# Altium integrated library WE-TPC.IntLib: 262 symbols (part 1 of 3)
Pins are listed as number, name and electrical type; pins without a type are passive.

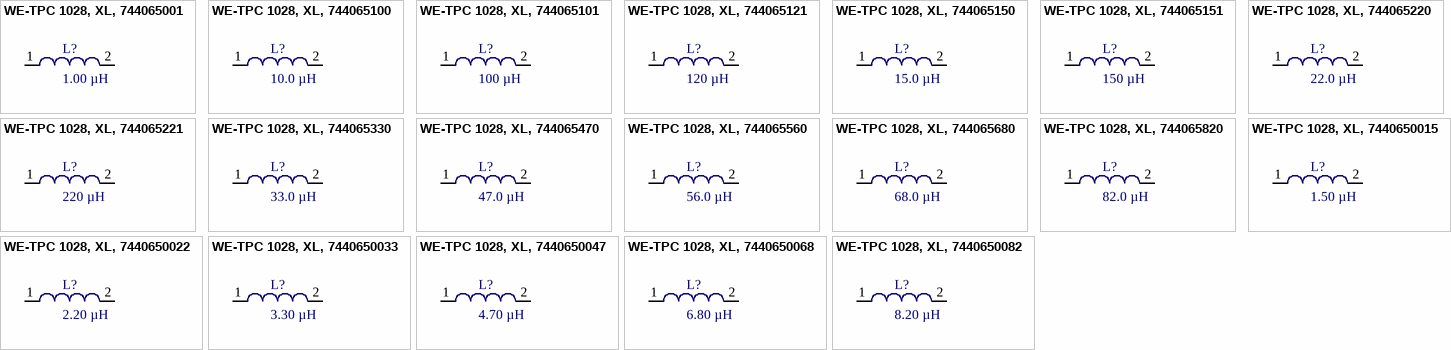
[diagram p0: symbols WE-TPC 1028, XL, 744065001 to WE-TPC 1028, XL, 7440650082]

## WE-TPC 1028, XL, 744065001
designator L?, comment 1.00 µH
SMD Shielded Tiny Power Inductor WE-TPC, L=1.00 µH; partNo: 744065001; Manufacturer: Würth Elektronik eiSos GmbH; Inductance: 1.00 µH; ComponentLink1Description: Manufacturer; ComponentLink1URL: http://www.we-online.de; Created by: Christin Zierenner; Created Date: July 2009; ComponentLink2Description: Datasheet; ComponentLink2URL: http://www.we-online.de/katalog/media/pdf/744065001.pdf
footprint WE-TPC 1028, XL (SMD Inductor, 2-Leads, Body 10,0x10,0mm)
pins: 1, 2

## WE-TPC 1028, XL, 744065100
designator L?, comment 10.0 µH
SMD Shielded Tiny Power Inductor WE-TPC, L=10.0 µH; partNo: 744065100; Manufacturer: Würth Elektronik eiSos GmbH; Inductance: 10.0 µH; ComponentLink1Description: Manufacturer; ComponentLink1URL: http://www.we-online.de; Created by: Christin Zierenner; Created Date: July 2009; ComponentLink2Description: Datasheet; ComponentLink2URL: http://www.we-online.de/katalog/media/pdf/744065100.pdf
footprint WE-TPC 1028, XL (SMD Inductor, 2-Leads, Body 10,0x10,0mm)
pins: 1, 2

## WE-TPC 1028, XL, 744065101
designator L?, comment 100 µH
SMD Shielded Tiny Power Inductor WE-TPC, L=100 µH; partNo: 744065101; Manufacturer: Würth Elektronik eiSos GmbH; Inductance: 100 µH; ComponentLink1Description: Manufacturer; ComponentLink1URL: http://www.we-online.de; Created by: Christin Zierenner; Created Date: July 2009; ComponentLink2Description: Datasheet; ComponentLink2URL: http://www.we-online.de/katalog/media/pdf/744065101.pdf
footprint WE-TPC 1028, XL (SMD Inductor, 2-Leads, Body 10,0x10,0mm)
pins: 1, 2

## WE-TPC 1028, XL, 744065121
designator L?, comment 120 µH
SMD Shielded Tiny Power Inductor WE-TPC, L=120 µH; partNo: 744065121; Manufacturer: Würth Elektronik eiSos GmbH; Inductance: 120 µH; ComponentLink1Description: Manufacturer; ComponentLink1URL: http://www.we-online.de; Created by: Christin Zierenner; Created Date: July 2009; ComponentLink2Description: Datasheet; ComponentLink2URL: http://www.we-online.de/katalog/media/pdf/744065121.pdf
footprint WE-TPC 1028, XL (SMD Inductor, 2-Leads, Body 10,0x10,0mm)
pins: 1, 2

## WE-TPC 1028, XL, 744065150
designator L?, comment 15.0 µH
SMD Shielded Tiny Power Inductor WE-TPC, L=15.0 µH; partNo: 744065150; Manufacturer: Würth Elektronik eiSos GmbH; Inductance: 15.0 µH; ComponentLink1Description: Manufacturer; ComponentLink1URL: http://www.we-online.de; Created by: Christin Zierenner; Created Date: July 2009; ComponentLink2Description: Datasheet; ComponentLink2URL: http://www.we-online.de/katalog/media/pdf/744065150.pdf
footprint WE-TPC 1028, XL (SMD Inductor, 2-Leads, Body 10,0x10,0mm)
pins: 1, 2

## WE-TPC 1028, XL, 744065151
designator L?, comment 150 µH
SMD Shielded Tiny Power Inductor WE-TPC, L=150 µH; partNo: 744065151; Manufacturer: Würth Elektronik eiSos GmbH; Inductance: 150 µH; ComponentLink1Description: Manufacturer; ComponentLink1URL: http://www.we-online.de; Created by: Christin Zierenner; Created Date: July 2009; ComponentLink2Description: Datasheet; ComponentLink2URL: http://www.we-online.de/katalog/media/pdf/744065151.pdf
footprint WE-TPC 1028, XL (SMD Inductor, 2-Leads, Body 10,0x10,0mm)
pins: 1, 2

## WE-TPC 1028, XL, 744065220
designator L?, comment 22.0 µH
SMD Shielded Tiny Power Inductor WE-TPC, L=22.0 µH; partNo: 744065220; Manufacturer: Würth Elektronik eiSos GmbH; Inductance: 22.0 µH; ComponentLink1Description: Manufacturer; ComponentLink1URL: http://www.we-online.de; Created by: Christin Zierenner; Created Date: July 2009; ComponentLink2Description: Datasheet; ComponentLink2URL: http://www.we-online.de/katalog/media/pdf/744065220.pdf
footprint WE-TPC 1028, XL (SMD Inductor, 2-Leads, Body 10,0x10,0mm)
pins: 1, 2

## WE-TPC 1028, XL, 744065221
designator L?, comment 220 µH
SMD Shielded Tiny Power Inductor WE-TPC, L=220 µH; partNo: 744065221; Manufacturer: Würth Elektronik eiSos GmbH; Inductance: 220 µH; ComponentLink1Description: Manufacturer; ComponentLink1URL: http://www.we-online.de; Created by: Christin Zierenner; Created Date: July 2009; ComponentLink2Description: Datasheet; ComponentLink2URL: http://www.we-online.de/katalog/media/pdf/744065221.pdf
footprint WE-TPC 1028, XL (SMD Inductor, 2-Leads, Body 10,0x10,0mm)
pins: 1, 2

## WE-TPC 1028, XL, 744065330
designator L?, comment 33.0 µH
SMD Shielded Tiny Power Inductor WE-TPC, L=33.0 µH; partNo: 744065330; Manufacturer: Würth Elektronik eiSos GmbH; Inductance: 33.0 µH; ComponentLink1Description: Manufacturer; ComponentLink1URL: http://www.we-online.de; Created by: Christin Zierenner; Created Date: July 2009; ComponentLink2Description: Datasheet; ComponentLink2URL: http://www.we-online.de/katalog/media/pdf/744065330.pdf
footprint WE-TPC 1028, XL (SMD Inductor, 2-Leads, Body 10,0x10,0mm)
pins: 1, 2

## WE-TPC 1028, XL, 744065470
designator L?, comment 47.0 µH
SMD Shielded Tiny Power Inductor WE-TPC, L=47.0 µH; partNo: 744065470; Manufacturer: Würth Elektronik eiSos GmbH; Inductance: 47.0 µH; ComponentLink1Description: Manufacturer; ComponentLink1URL: http://www.we-online.de; Created by: Christin Zierenner; Created Date: July 2009; ComponentLink2Description: Datasheet; ComponentLink2URL: http://www.we-online.de/katalog/media/pdf/744065470.pdf
footprint WE-TPC 1028, XL (SMD Inductor, 2-Leads, Body 10,0x10,0mm)
pins: 1, 2

## WE-TPC 1028, XL, 744065560
designator L?, comment 56.0 µH
SMD Shielded Tiny Power Inductor WE-TPC, L=56.0 µH; partNo: 744065560; Manufacturer: Würth Elektronik eiSos GmbH; Inductance: 56.0 µH; ComponentLink1Description: Manufacturer; ComponentLink1URL: http://www.we-online.de; Created by: Christin Zierenner; Created Date: July 2009; ComponentLink2Description: Datasheet; ComponentLink2URL: http://www.we-online.de/katalog/media/pdf/744065560.pdf
footprint WE-TPC 1028, XL (SMD Inductor, 2-Leads, Body 10,0x10,0mm)
pins: 1, 2

## WE-TPC 1028, XL, 744065680
designator L?, comment 68.0 µH
SMD Shielded Tiny Power Inductor WE-TPC, L=68.0 µH; partNo: 744065680; Manufacturer: Würth Elektronik eiSos GmbH; Inductance: 68.0 µH; ComponentLink1Description: Manufacturer; ComponentLink1URL: http://www.we-online.de; Created by: Christin Zierenner; Created Date: July 2009; ComponentLink2Description: Datasheet; ComponentLink2URL: http://www.we-online.de/katalog/media/pdf/744065680.pdf
footprint WE-TPC 1028, XL (SMD Inductor, 2-Leads, Body 10,0x10,0mm)
pins: 1, 2

## WE-TPC 1028, XL, 744065820
designator L?, comment 82.0 µH
SMD Shielded Tiny Power Inductor WE-TPC, L=82.0 µH; partNo: 744065820; Manufacturer: Würth Elektronik eiSos GmbH; Inductance: 82.0 µH; ComponentLink1Description: Manufacturer; ComponentLink1URL: http://www.we-online.de; Created by: Christin Zierenner; Created Date: July 2009; ComponentLink2Description: Datasheet; ComponentLink2URL: http://www.we-online.de/katalog/media/pdf/744065820.pdf
footprint WE-TPC 1028, XL (SMD Inductor, 2-Leads, Body 10,0x10,0mm)
pins: 1, 2

## WE-TPC 1028, XL, 7440650015
designator L?, comment 1.50 µH
SMD Shielded Tiny Power Inductor WE-TPC, L=1.50 µH; partNo: 7440650015; Manufacturer: Würth Elektronik eiSos GmbH; Inductance: 1.50 µH; ComponentLink1Description: Manufacturer; ComponentLink1URL: http://www.we-online.de; Created by: Christin Zierenner; Created Date: July 2009; ComponentLink2Description: Datasheet; ComponentLink2URL: http://www.we-online.de/katalog/media/pdf/7440650015.pdf
footprint WE-TPC 1028, XL (SMD Inductor, 2-Leads, Body 10,0x10,0mm)
pins: 1, 2

## WE-TPC 1028, XL, 7440650022
designator L?, comment 2.20 µH
SMD Shielded Tiny Power Inductor WE-TPC, L=2.20 µH; partNo: 7440650022; Manufacturer: Würth Elektronik eiSos GmbH; Inductance: 2.20 µH; ComponentLink1Description: Manufacturer; ComponentLink1URL: http://www.we-online.de; Created by: Christin Zierenner; Created Date: July 2009; ComponentLink2Description: Datasheet; ComponentLink2URL: http://www.we-online.de/katalog/media/pdf/7440650022.pdf
footprint WE-TPC 1028, XL (SMD Inductor, 2-Leads, Body 10,0x10,0mm)
pins: 1, 2

## WE-TPC 1028, XL, 7440650033
designator L?, comment 3.30 µH
SMD Shielded Tiny Power Inductor WE-TPC, L=3.30 µH; partNo: 7440650033; Manufacturer: Würth Elektronik eiSos GmbH; Inductance: 3.30 µH; ComponentLink1Description: Manufacturer; ComponentLink1URL: http://www.we-online.de; Created by: Christin Zierenner; Created Date: July 2009; ComponentLink2Description: Datasheet; ComponentLink2URL: http://www.we-online.de/katalog/media/pdf/7440650033.pdf
footprint WE-TPC 1028, XL (SMD Inductor, 2-Leads, Body 10,0x10,0mm)
pins: 1, 2

## WE-TPC 1028, XL, 7440650047
designator L?, comment 4.70 µH
SMD Shielded Tiny Power Inductor WE-TPC, L=4.70 µH; partNo: 7440650047; Manufacturer: Würth Elektronik eiSos GmbH; Inductance: 4.70 µH; ComponentLink1Description: Manufacturer; ComponentLink1URL: http://www.we-online.de; Created by: Christin Zierenner; Created Date: July 2009; ComponentLink2Description: Datasheet; ComponentLink2URL: http://www.we-online.de/katalog/media/pdf/7440650047.pdf
footprint WE-TPC 1028, XL (SMD Inductor, 2-Leads, Body 10,0x10,0mm)
pins: 1, 2

## WE-TPC 1028, XL, 7440650068
designator L?, comment 6.80 µH
SMD Shielded Tiny Power Inductor WE-TPC, L=6.80 µH; partNo: 7440650068; Manufacturer: Würth Elektronik eiSos GmbH; Inductance: 6.80 µH; ComponentLink1Description: Manufacturer; ComponentLink1URL: http://www.we-online.de; Created by: Christin Zierenner; Created Date: July 2009; ComponentLink2Description: Datasheet; ComponentLink2URL: http://www.we-online.de/katalog/media/pdf/7440650068.pdf
footprint WE-TPC 1028, XL (SMD Inductor, 2-Leads, Body 10,0x10,0mm)
pins: 1, 2

## WE-TPC 1028, XL, 7440650082
designator L?, comment 8.20 µH
SMD Shielded Tiny Power Inductor WE-TPC, L=8.20 µH; partNo: 7440650082; Manufacturer: Würth Elektronik eiSos GmbH; Inductance: 8.20 µH; ComponentLink1Description: Manufacturer; ComponentLink1URL: http://www.we-online.de; Created by: Christin Zierenner; Created Date: July 2009; ComponentLink2Description: Datasheet; ComponentLink2URL: http://www.we-online.de/katalog/media/pdf/7440650082.pdf
footprint WE-TPC 1028, XL (SMD Inductor, 2-Leads, Body 10,0x10,0mm)
pins: 1, 2


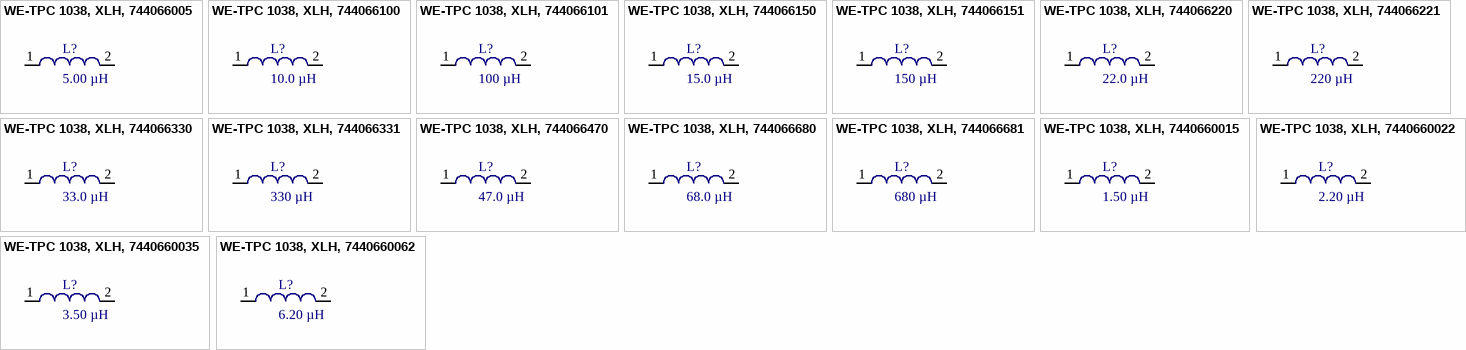
[diagram p1: symbols WE-TPC 1038, XLH, 744066005 to WE-TPC 1038, XLH, 7440660062]

## WE-TPC 1038, XLH, 744066005
designator L?, comment 5.00 µH
SMD Shielded Tiny Power Inductor WE-TPC, L=5.00 µH; partNo: 744066005; Manufacturer: Würth Elektronik eiSos GmbH; Inductance: 5.00 µH; ComponentLink1Description: Manufacturer; ComponentLink1URL: http://www.we-online.de; Created by: Christin Zierenner; Created Date: July 2009; ComponentLink2Description: Datasheet; ComponentLink2URL: http://www.we-online.de/katalog/media/pdf/744066005.pdf
footprint WE-TPC 1038, XLH (SMD Inductor, 2-Leads, Body 10,0x10,0mm)
pins: 1, 2

## WE-TPC 1038, XLH, 744066100
designator L?, comment 10.0 µH
SMD Shielded Tiny Power Inductor WE-TPC, L=10.0 µH; partNo: 744066100; Manufacturer: Würth Elektronik eiSos GmbH; Inductance: 10.0 µH; ComponentLink1Description: Manufacturer; ComponentLink1URL: http://www.we-online.de; Created by: Christin Zierenner; Created Date: July 2009; ComponentLink2Description: Datasheet; ComponentLink2URL: http://www.we-online.de/katalog/media/pdf/744066100.pdf
footprint WE-TPC 1038, XLH (SMD Inductor, 2-Leads, Body 10,0x10,0mm)
pins: 1, 2

## WE-TPC 1038, XLH, 744066101
designator L?, comment 100 µH
SMD Shielded Tiny Power Inductor WE-TPC, L=100 µH; partNo: 744066101; Manufacturer: Würth Elektronik eiSos GmbH; Inductance: 100 µH; ComponentLink1Description: Manufacturer; ComponentLink1URL: http://www.we-online.de; Created by: Christin Zierenner; Created Date: July 2009; ComponentLink2Description: Datasheet; ComponentLink2URL: http://www.we-online.de/katalog/media/pdf/744066101.pdf
footprint WE-TPC 1038, XLH (SMD Inductor, 2-Leads, Body 10,0x10,0mm)
pins: 1, 2

## WE-TPC 1038, XLH, 744066150
designator L?, comment 15.0 µH
SMD Shielded Tiny Power Inductor WE-TPC, L=15.0 µH; partNo: 744066150; Manufacturer: Würth Elektronik eiSos GmbH; Inductance: 15.0 µH; ComponentLink1Description: Manufacturer; ComponentLink1URL: http://www.we-online.de; Created by: Christin Zierenner; Created Date: July 2009; ComponentLink2Description: Datasheet; ComponentLink2URL: http://www.we-online.de/katalog/media/pdf/744066150.pdf
footprint WE-TPC 1038, XLH (SMD Inductor, 2-Leads, Body 10,0x10,0mm)
pins: 1, 2

## WE-TPC 1038, XLH, 744066151
designator L?, comment 150 µH
SMD Shielded Tiny Power Inductor WE-TPC, L=150 µH; partNo: 744066151; Manufacturer: Würth Elektronik eiSos GmbH; Inductance: 150 µH; ComponentLink1Description: Manufacturer; ComponentLink1URL: http://www.we-online.de; Created by: Christin Zierenner; Created Date: July 2009; ComponentLink2Description: Datasheet; ComponentLink2URL: http://www.we-online.de/katalog/media/pdf/744066151.pdf
footprint WE-TPC 1038, XLH (SMD Inductor, 2-Leads, Body 10,0x10,0mm)
pins: 1, 2

## WE-TPC 1038, XLH, 744066220
designator L?, comment 22.0 µH
SMD Shielded Tiny Power Inductor WE-TPC, L=22.0 µH; partNo: 744066220; Manufacturer: Würth Elektronik eiSos GmbH; Inductance: 22.0 µH; ComponentLink1Description: Manufacturer; ComponentLink1URL: http://www.we-online.de; Created by: Christin Zierenner; Created Date: July 2009; ComponentLink2Description: Datasheet; ComponentLink2URL: http://www.we-online.de/katalog/media/pdf/744066220.pdf
footprint WE-TPC 1038, XLH (SMD Inductor, 2-Leads, Body 10,0x10,0mm)
pins: 1, 2

## WE-TPC 1038, XLH, 744066221
designator L?, comment 220 µH
SMD Shielded Tiny Power Inductor WE-TPC, L=220 µH; partNo: 744066221; Manufacturer: Würth Elektronik eiSos GmbH; Inductance: 220 µH; ComponentLink1Description: Manufacturer; ComponentLink1URL: http://www.we-online.de; Created by: Christin Zierenner; Created Date: July 2009; ComponentLink2Description: Datasheet; ComponentLink2URL: http://www.we-online.de/katalog/media/pdf/744066221.pdf
footprint WE-TPC 1038, XLH (SMD Inductor, 2-Leads, Body 10,0x10,0mm)
pins: 1, 2

## WE-TPC 1038, XLH, 744066330
designator L?, comment 33.0 µH
SMD Shielded Tiny Power Inductor WE-TPC, L=33.0 µH; partNo: 744066330; Manufacturer: Würth Elektronik eiSos GmbH; Inductance: 33.0 µH; ComponentLink1Description: Manufacturer; ComponentLink1URL: http://www.we-online.de; Created by: Christin Zierenner; Created Date: July 2009; ComponentLink2Description: Datasheet; ComponentLink2URL: http://www.we-online.de/katalog/media/pdf/744066330.pdf
footprint WE-TPC 1038, XLH (SMD Inductor, 2-Leads, Body 10,0x10,0mm)
pins: 1, 2

## WE-TPC 1038, XLH, 744066331
designator L?, comment 330 µH
SMD Shielded Tiny Power Inductor WE-TPC, L=330 µH; partNo: 744066331; Manufacturer: Würth Elektronik eiSos GmbH; Inductance: 330 µH; ComponentLink1Description: Manufacturer; ComponentLink1URL: http://www.we-online.de; Created by: Christin Zierenner; Created Date: July 2009; ComponentLink2Description: Datasheet; ComponentLink2URL: http://www.we-online.de/katalog/media/pdf/744066331.pdf
footprint WE-TPC 1038, XLH (SMD Inductor, 2-Leads, Body 10,0x10,0mm)
pins: 1, 2

## WE-TPC 1038, XLH, 744066470
designator L?, comment 47.0 µH
SMD Shielded Tiny Power Inductor WE-TPC, L=47.0 µH; partNo: 744066470; Manufacturer: Würth Elektronik eiSos GmbH; Inductance: 47.0 µH; ComponentLink1Description: Manufacturer; ComponentLink1URL: http://www.we-online.de; Created by: Christin Zierenner; Created Date: July 2009; ComponentLink2Description: Datasheet; ComponentLink2URL: http://www.we-online.de/katalog/media/pdf/744066470.pdf
footprint WE-TPC 1038, XLH (SMD Inductor, 2-Leads, Body 10,0x10,0mm)
pins: 1, 2

## WE-TPC 1038, XLH, 744066680
designator L?, comment 68.0 µH
SMD Shielded Tiny Power Inductor WE-TPC, L=68.0 µH; partNo: 744066680; Manufacturer: Würth Elektronik eiSos GmbH; Inductance: 68.0 µH; ComponentLink1Description: Manufacturer; ComponentLink1URL: http://www.we-online.de; Created by: Christin Zierenner; Created Date: July 2009; ComponentLink2Description: Datasheet; ComponentLink2URL: http://www.we-online.de/katalog/media/pdf/744066680.pdf
footprint WE-TPC 1038, XLH (SMD Inductor, 2-Leads, Body 10,0x10,0mm)
pins: 1, 2

## WE-TPC 1038, XLH, 744066681
designator L?, comment 680 µH
SMD Shielded Tiny Power Inductor WE-TPC, L=680 µH; partNo: 744066681; Manufacturer: Würth Elektronik eiSos GmbH; Inductance: 680 µH; ComponentLink1Description: Manufacturer; ComponentLink1URL: http://www.we-online.de; Created by: Christin Zierenner; Created Date: July 2009; ComponentLink2Description: Datasheet; ComponentLink2URL: http://www.we-online.de/katalog/media/pdf/744066681.pdf
footprint WE-TPC 1038, XLH (SMD Inductor, 2-Leads, Body 10,0x10,0mm)
pins: 1, 2

## WE-TPC 1038, XLH, 7440660015
designator L?, comment 1.50 µH
SMD Shielded Tiny Power Inductor WE-TPC, L=1.50 µH; partNo: 7440660015; Manufacturer: Würth Elektronik eiSos GmbH; Inductance: 1.50 µH; ComponentLink1Description: Manufacturer; ComponentLink1URL: http://www.we-online.de; Created by: Christin Zierenner; Created Date: July 2009; ComponentLink2Description: Datasheet; ComponentLink2URL: http://www.we-online.de/katalog/media/pdf/7440660015.pdf
footprint WE-TPC 1038, XLH (SMD Inductor, 2-Leads, Body 10,0x10,0mm)
pins: 1, 2

## WE-TPC 1038, XLH, 7440660022
designator L?, comment 2.20 µH
SMD Shielded Tiny Power Inductor WE-TPC, L=2.20 µH; partNo: 7440660022; Manufacturer: Würth Elektronik eiSos GmbH; Inductance: 2.20 µH; ComponentLink1Description: Manufacturer; ComponentLink1URL: http://www.we-online.de; Created by: Christin Zierenner; Created Date: July 2009; ComponentLink2Description: Datasheet; ComponentLink2URL: http://www.we-online.de/katalog/media/pdf/7440660022.pdf
footprint WE-TPC 1038, XLH (SMD Inductor, 2-Leads, Body 10,0x10,0mm)
pins: 1, 2

## WE-TPC 1038, XLH, 7440660035
designator L?, comment 3.50 µH
SMD Shielded Tiny Power Inductor WE-TPC, L=3.50 µH; partNo: 7440660035; Manufacturer: Würth Elektronik eiSos GmbH; Inductance: 3.50 µH; ComponentLink1Description: Manufacturer; ComponentLink1URL: http://www.we-online.de; Created by: Christin Zierenner; Created Date: July 2009; ComponentLink2Description: Datasheet; ComponentLink2URL: http://www.we-online.de/katalog/media/pdf/7440660035.pdf
footprint WE-TPC 1038, XLH (SMD Inductor, 2-Leads, Body 10,0x10,0mm)
pins: 1, 2

## WE-TPC 1038, XLH, 7440660062
designator L?, comment 6.20 µH
SMD Shielded Tiny Power Inductor WE-TPC, L=6.20 µH; partNo: 7440660062; Manufacturer: Würth Elektronik eiSos GmbH; Inductance: 6.20 µH; ComponentLink1Description: Manufacturer; ComponentLink1URL: http://www.we-online.de; Created by: Christin Zierenner; Created Date: July 2009; ComponentLink2Description: Datasheet; ComponentLink2URL: http://www.we-online.de/katalog/media/pdf/7440660062.pdf
footprint WE-TPC 1038, XLH (SMD Inductor, 2-Leads, Body 10,0x10,0mm)
pins: 1, 2


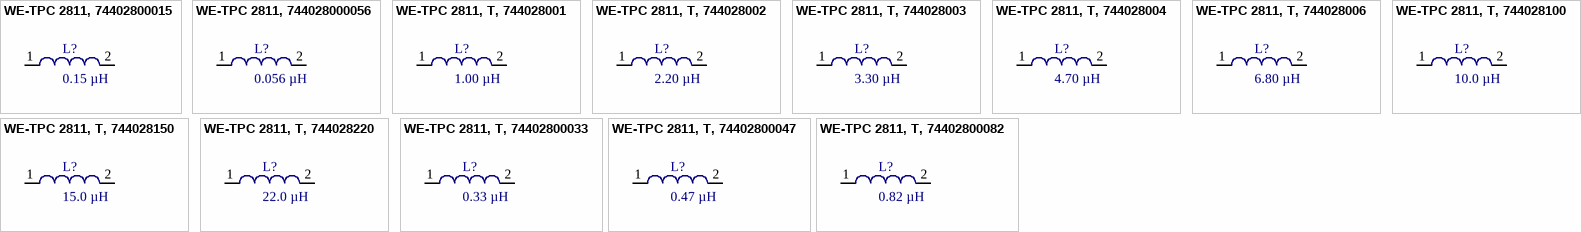
[diagram p2: symbols WE-TPC 2811, 74402800015 to WE-TPC 2811, T, 74402800082]

## WE-TPC 2811, 74402800015
designator L?, comment 0.15 µH
SMD Shielded Tiny Power Inductor WE-TPC, L=0.15 µH; partNo: 74402800015; Manufacturer: Würth Elektronik eiSos GmbH; Inductance: 0.15 µH; ComponentLink1Description: Manufacturer; ComponentLink1URL: http://www.we-online.de; Created by: Christin Otto; Created Date: January 2013; ComponentLink2Description: Datasheet; ComponentLink2URL: http://www.we-online.de/katalog/media/pdf/74402800015.pdf
footprint WE-TPC 2811, T (SMD Inductor, 2-Leads, Body 2,8x2,8mm)
pins: 1, 2

## WE-TPC 2811, 744028000056
designator L?, comment 0.056 µH
SMD Shielded Tiny Power Inductor WE-TPC, L=0.056 µH; partNo: 744028000056; Manufacturer: Würth Elektronik eiSos GmbH; Inductance: 0.056 µH; ComponentLink1Description: Manufacturer; ComponentLink1URL: http://www.we-online.de; Created by: Christin Otto; Created Date: January 2013; ComponentLink2Description: Datasheet; ComponentLink2URL: http://www.we-online.de/katalog/media/pdf/744028000056.pdf
footprint WE-TPC 2811, T (SMD Inductor, 2-Leads, Body 2,8x2,8mm)
pins: 1, 2

## WE-TPC 2811, T, 744028001
designator L?, comment 1.00 µH
SMD Shielded Tiny Power Inductor WE-TPC, L=1.00 µH; partNo: 744028001; Manufacturer: Würth Elektronik eiSos GmbH; Inductance: 1.00 µH; ComponentLink1Description: Manufacturer; ComponentLink1URL: http://www.we-online.de; Created by: Christin Zierenner; Created Date: July 2009; ComponentLink2Description: Datasheet; ComponentLink2URL: http://www.we-online.de/katalog/media/pdf/744028001.pdf
footprint WE-TPC 2811, T (SMD Inductor, 2-Leads, Body 2,8x2,8mm)
pins: 1, 2

## WE-TPC 2811, T, 744028002
designator L?, comment 2.20 µH
SMD Shielded Tiny Power Inductor WE-TPC, L=2.20 µH; partNo: 744028002; Manufacturer: Würth Elektronik eiSos GmbH; Inductance: 2.20 µH; ComponentLink1Description: Manufacturer; ComponentLink1URL: http://www.we-online.de; Created by: Christin Zierenner; Created Date: July 2009; ComponentLink2Description: Datasheet; ComponentLink2URL: http://www.we-online.de/katalog/media/pdf/744028002.pdf
footprint WE-TPC 2811, T (SMD Inductor, 2-Leads, Body 2,8x2,8mm)
pins: 1, 2

## WE-TPC 2811, T, 744028003
designator L?, comment 3.30 µH
SMD Shielded Tiny Power Inductor WE-TPC, L=3.30 µH; partNo: 744028003; Manufacturer: Würth Elektronik eiSos GmbH; Inductance: 3.30 µH; ComponentLink1Description: Manufacturer; ComponentLink1URL: http://www.we-online.de; Created by: Christin Zierenner; Created Date: July 2009; ComponentLink2Description: Datasheet; ComponentLink2URL: http://www.we-online.de/katalog/media/pdf/744028003.pdf
footprint WE-TPC 2811, T (SMD Inductor, 2-Leads, Body 2,8x2,8mm)
pins: 1, 2

## WE-TPC 2811, T, 744028004
designator L?, comment 4.70 µH
SMD Shielded Tiny Power Inductor WE-TPC, L=4.70 µH; partNo: 744028004; Manufacturer: Würth Elektronik eiSos GmbH; Inductance: 4.70 µH; ComponentLink1Description: Manufacturer; ComponentLink1URL: http://www.we-online.de; Created by: Christin Zierenner; Created Date: July 2009; ComponentLink2Description: Datasheet; ComponentLink2URL: http://www.we-online.de/katalog/media/pdf/744028004.pdf
footprint WE-TPC 2811, T (SMD Inductor, 2-Leads, Body 2,8x2,8mm)
pins: 1, 2

## WE-TPC 2811, T, 744028006
designator L?, comment 6.80 µH
SMD Shielded Tiny Power Inductor WE-TPC, L=6.80 µH; partNo: 744028006; Manufacturer: Würth Elektronik eiSos GmbH; Inductance: 6.80 µH; ComponentLink1Description: Manufacturer; ComponentLink1URL: http://www.we-online.de; Created by: Christin Zierenner; Created Date: July 2009; ComponentLink2Description: Datasheet; ComponentLink2URL: http://www.we-online.de/katalog/media/pdf/744028006.pdf
footprint WE-TPC 2811, T (SMD Inductor, 2-Leads, Body 2,8x2,8mm)
pins: 1, 2

## WE-TPC 2811, T, 744028100
designator L?, comment 10.0 µH
SMD Shielded Tiny Power Inductor WE-TPC, L=10.0 µH; partNo: 744028100; Manufacturer: Würth Elektronik eiSos GmbH; Inductance: 10.0 µH; ComponentLink1Description: Manufacturer; ComponentLink1URL: http://www.we-online.de; Created by: Christin Zierenner; Created Date: July 2009; ComponentLink2Description: Datasheet; ComponentLink2URL: http://www.we-online.de/katalog/media/pdf/744028100.pdf
footprint WE-TPC 2811, T (SMD Inductor, 2-Leads, Body 2,8x2,8mm)
pins: 1, 2

## WE-TPC 2811, T, 744028150
designator L?, comment 15.0 µH
SMD Shielded Tiny Power Inductor WE-TPC, L=15.0 µH; partNo: 744028150; Manufacturer: Würth Elektronik eiSos GmbH; Inductance: 15.0 µH; ComponentLink1Description: Manufacturer; ComponentLink1URL: http://www.we-online.de; Created by: Christin Zierenner; Created Date: July 2009; ComponentLink2Description: Datasheet; ComponentLink2URL: http://www.we-online.de/katalog/media/pdf/744028150.pdf
footprint WE-TPC 2811, T (SMD Inductor, 2-Leads, Body 2,8x2,8mm)
pins: 1, 2

## WE-TPC 2811, T, 744028220
designator L?, comment 22.0 µH
SMD Shielded Tiny Power Inductor WE-TPC, L=22.0 µH; partNo: 744028220; Manufacturer: Würth Elektronik eiSos GmbH; Inductance: 22.0 µH; ComponentLink1Description: Manufacturer; ComponentLink1URL: http://www.we-online.de; Created by: Christin Zierenner; Created Date: July 2009; ComponentLink2Description: Datasheet; ComponentLink2URL: http://www.we-online.de/katalog/media/pdf/744028220.pdf
footprint WE-TPC 2811, T (SMD Inductor, 2-Leads, Body 2,8x2,8mm)
pins: 1, 2

## WE-TPC 2811, T, 74402800033
designator L?, comment 0.33 µH
SMD Shielded Tiny Power Inductor WE-TPC, L=0.33 µH; partNo: 74402800033; Manufacturer: Würth Elektronik eiSos GmbH; Inductance: 0.33 µH; ComponentLink1Description: Manufacturer; ComponentLink1URL: http://www.we-online.de; Created by: Christin Zierenner; Created Date: July 2009; ComponentLink2Description: Datasheet; ComponentLink2URL: http://www.we-online.de/katalog/media/pdf/74402800033.pdf
footprint WE-TPC 2811, T (SMD Inductor, 2-Leads, Body 2,8x2,8mm)
pins: 1, 2

## WE-TPC 2811, T, 74402800047
designator L?, comment 0.47 µH
SMD Shielded Tiny Power Inductor WE-TPC, L=0.47 µH; partNo: 74402800047; Manufacturer: Würth Elektronik eiSos GmbH; Inductance: 0.47 µH; ComponentLink1Description: Manufacturer; ComponentLink1URL: http://www.we-online.de; Created by: Christin Zierenner; Created Date: July 2009; ComponentLink2Description: Datasheet; ComponentLink2URL: http://www.we-online.de/katalog/media/pdf/74402800047.pdf
footprint WE-TPC 2811, T (SMD Inductor, 2-Leads, Body 2,8x2,8mm)
pins: 1, 2

## WE-TPC 2811, T, 74402800082
designator L?, comment 0.82 µH
SMD Shielded Tiny Power Inductor WE-TPC, L=0.82 µH; partNo: 74402800082; Manufacturer: Würth Elektronik eiSos GmbH; Inductance: 0.82 µH; ComponentLink1Description: Manufacturer; ComponentLink1URL: http://www.we-online.de; Created by: Christin Zierenner; Created Date: July 2009; ComponentLink2Description: Datasheet; ComponentLink2URL: http://www.we-online.de/katalog/media/pdf/74402800082.pdf
footprint WE-TPC 2811, T (SMD Inductor, 2-Leads, Body 2,8x2,8mm)
pins: 1, 2


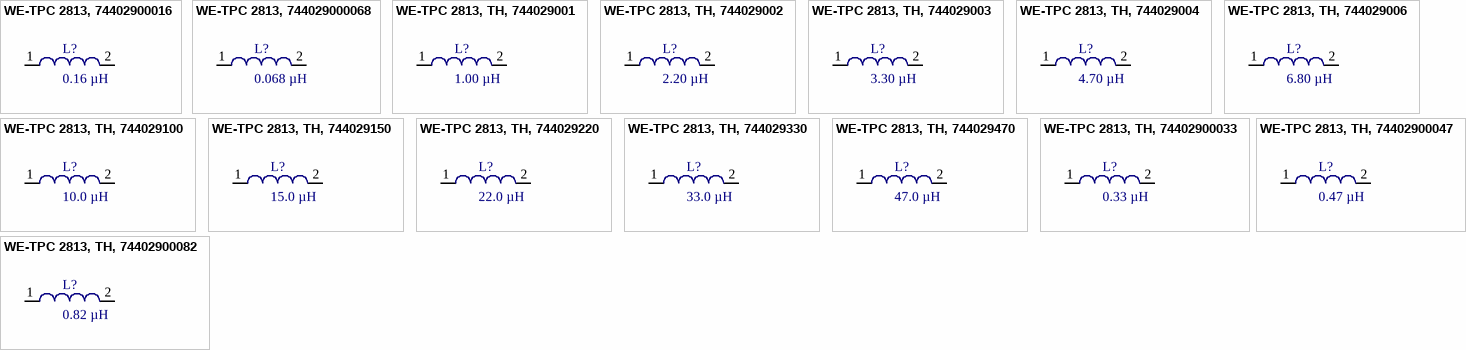
[diagram p3: symbols WE-TPC 2813, 74402900016 to WE-TPC 2813, TH, 74402900082]

## WE-TPC 2813, 74402900016
designator L?, comment 0.16 µH
SMD Shielded Tiny Power Inductor WE-TPC, L=0.16 µH; partNo: 74402900016; Manufacturer: Würth Elektronik eiSos GmbH; Inductance: 0.16 µH; ComponentLink1Description: Manufacturer; ComponentLink1URL: http://www.we-online.de; Created by: Christin Otto; Created Date: January 2013; ComponentLink2Description: Datasheet; ComponentLink2URL: http://www.we-online.de/katalog/media/pdf/74402900016.pdf
footprint WE-TPC 2813, TH (SMD Inductor, 2-Leads, Body 2,8x2,8mm)
pins: 1, 2

## WE-TPC 2813, 744029000068
designator L?, comment 0.068 µH
SMD Shielded Tiny Power Inductor WE-TPC, L=0.068 µH; partNo: 744029000068; Manufacturer: Würth Elektronik eiSos GmbH; Inductance: 0.068 µH; ComponentLink1Description: Manufacturer; ComponentLink1URL: http://www.we-online.de; Created by: Christin Otto; Created Date: January 2013; ComponentLink2Description: Datasheet; ComponentLink2URL: http://www.we-online.de/katalog/media/pdf/744029000068.pdf
footprint WE-TPC 2813, TH (SMD Inductor, 2-Leads, Body 2,8x2,8mm)
pins: 1, 2

## WE-TPC 2813, TH, 744029001
designator L?, comment 1.00 µH
SMD Shielded Tiny Power Inductor WE-TPC, L=1.00 µH; partNo: 744029001; Manufacturer: Würth Elektronik eiSos GmbH; Inductance: 1.00 µH; ComponentLink1Description: Manufacturer; ComponentLink1URL: http://www.we-online.de; Created by: Christin Zierenner; Created Date: July 2009; ComponentLink2Description: Datasheet; ComponentLink2URL: http://www.we-online.de/katalog/media/pdf/744029001.pdf
footprint WE-TPC 2813, TH (SMD Inductor, 2-Leads, Body 2,8x2,8mm)
pins: 1, 2

## WE-TPC 2813, TH, 744029002
designator L?, comment 2.20 µH
SMD Shielded Tiny Power Inductor WE-TPC, L=2.20 µH; partNo: 744029002; Manufacturer: Würth Elektronik eiSos GmbH; Inductance: 2.20 µH; ComponentLink1Description: Manufacturer; ComponentLink1URL: http://www.we-online.de; Created by: Christin Zierenner; Created Date: July 2009; ComponentLink2Description: Datasheet; ComponentLink2URL: http://www.we-online.de/katalog/media/pdf/744029002.pdf
footprint WE-TPC 2813, TH (SMD Inductor, 2-Leads, Body 2,8x2,8mm)
pins: 1, 2

## WE-TPC 2813, TH, 744029003
designator L?, comment 3.30 µH
SMD Shielded Tiny Power Inductor WE-TPC, L=3.30 µH; partNo: 744029003; Manufacturer: Würth Elektronik eiSos GmbH; Inductance: 3.30 µH; ComponentLink1Description: Manufacturer; ComponentLink1URL: http://www.we-online.de; Created by: Christin Zierenner; Created Date: July 2009; ComponentLink2Description: Datasheet; ComponentLink2URL: http://www.we-online.de/katalog/media/pdf/744029003.pdf
footprint WE-TPC 2813, TH (SMD Inductor, 2-Leads, Body 2,8x2,8mm)
pins: 1, 2

## WE-TPC 2813, TH, 744029004
designator L?, comment 4.70 µH
SMD Shielded Tiny Power Inductor WE-TPC, L=4.70 µH; partNo: 744029004; Manufacturer: Würth Elektronik eiSos GmbH; Inductance: 4.70 µH; ComponentLink1Description: Manufacturer; ComponentLink1URL: http://www.we-online.de; Created by: Christin Zierenner; Created Date: July 2009; ComponentLink2Description: Datasheet; ComponentLink2URL: http://www.we-online.de/katalog/media/pdf/744029004.pdf
footprint WE-TPC 2813, TH (SMD Inductor, 2-Leads, Body 2,8x2,8mm)
pins: 1, 2

## WE-TPC 2813, TH, 744029006
designator L?, comment 6.80 µH
SMD Shielded Tiny Power Inductor WE-TPC, L=6.80 µH; partNo: 744029006; Manufacturer: Würth Elektronik eiSos GmbH; Inductance: 6.80 µH; ComponentLink1Description: Manufacturer; ComponentLink1URL: http://www.we-online.de; Created by: Christin Zierenner; Created Date: July 2009; ComponentLink2Description: Datasheet; ComponentLink2URL: http://www.we-online.de/katalog/media/pdf/744029006.pdf
footprint WE-TPC 2813, TH (SMD Inductor, 2-Leads, Body 2,8x2,8mm)
pins: 1, 2

## WE-TPC 2813, TH, 744029100
designator L?, comment 10.0 µH
SMD Shielded Tiny Power Inductor WE-TPC, L=10.0 µH; partNo: 744029100; Manufacturer: Würth Elektronik eiSos GmbH; Inductance: 10.0 µH; ComponentLink1Description: Manufacturer; ComponentLink1URL: http://www.we-online.de; Created by: Christin Zierenner; Created Date: July 2009; ComponentLink2Description: Datasheet; ComponentLink2URL: http://www.we-online.de/katalog/media/pdf/744029100.pdf
footprint WE-TPC 2813, TH (SMD Inductor, 2-Leads, Body 2,8x2,8mm)
pins: 1, 2

## WE-TPC 2813, TH, 744029150
designator L?, comment 15.0 µH
SMD Shielded Tiny Power Inductor WE-TPC, L=15.0 µH; partNo: 744029150; Manufacturer: Würth Elektronik eiSos GmbH; Inductance: 15.0 µH; ComponentLink1Description: Manufacturer; ComponentLink1URL: http://www.we-online.de; Created by: Christin Zierenner; Created Date: July 2009; ComponentLink2Description: Datasheet; ComponentLink2URL: http://www.we-online.de/katalog/media/pdf/744029150.pdf
footprint WE-TPC 2813, TH (SMD Inductor, 2-Leads, Body 2,8x2,8mm)
pins: 1, 2

## WE-TPC 2813, TH, 744029220
designator L?, comment 22.0 µH
SMD Shielded Tiny Power Inductor WE-TPC, L=22.0 µH; partNo: 744029220; Manufacturer: Würth Elektronik eiSos GmbH; Inductance: 22.0 µH; ComponentLink1Description: Manufacturer; ComponentLink1URL: http://www.we-online.de; Created by: Christin Zierenner; Created Date: July 2009; ComponentLink2Description: Datasheet; ComponentLink2URL: http://www.we-online.de/katalog/media/pdf/744029220.pdf
footprint WE-TPC 2813, TH (SMD Inductor, 2-Leads, Body 2,8x2,8mm)
pins: 1, 2

## WE-TPC 2813, TH, 744029330
designator L?, comment 33.0 µH
SMD Shielded Tiny Power Inductor WE-TPC, L=33.0 µH; partNo: 744029330; Manufacturer: Würth Elektronik eiSos GmbH; Inductance: 33.0 µH; ComponentLink1Description: Manufacturer; ComponentLink1URL: http://www.we-online.de; Created by: Christin Zierenner; Created Date: July 2009; ComponentLink2Description: Datasheet; ComponentLink2URL: http://www.we-online.de/katalog/media/pdf/744029330.pdf
footprint WE-TPC 2813, TH (SMD Inductor, 2-Leads, Body 2,8x2,8mm)
pins: 1, 2

## WE-TPC 2813, TH, 744029470
designator L?, comment 47.0 µH
SMD Shielded Tiny Power Inductor WE-TPC, L=47.0 µH; partNo: 744029470; Manufacturer: Würth Elektronik eiSos GmbH; Inductance: 47.0 µH; ComponentLink1Description: Manufacturer; ComponentLink1URL: http://www.we-online.de; Created by: Christin Zierenner; Created Date: June 2010; ComponentLink2Description: Datasheet; ComponentLink2URL: http://www.we-online.de/katalog/media/pdf/744029470.pdf
footprint WE-TPC 2813, TH (SMD Inductor, 2-Leads, Body 2,8x2,8mm)
pins: 1, 2

## WE-TPC 2813, TH, 74402900033
designator L?, comment 0.33 µH
SMD Shielded Tiny Power Inductor WE-TPC, L=0.33 µH; partNo: 74402900033; Manufacturer: Würth Elektronik eiSos GmbH; Inductance: 0.33 µH; ComponentLink1Description: Manufacturer; ComponentLink1URL: http://www.we-online.de; Created by: Christin Zierenner; Created Date: July 2009; ComponentLink2Description: Datasheet; ComponentLink2URL: http://www.we-online.de/katalog/media/pdf/74402900033.pdf
footprint WE-TPC 2813, TH (SMD Inductor, 2-Leads, Body 2,8x2,8mm)
pins: 1, 2

## WE-TPC 2813, TH, 74402900047
designator L?, comment 0.47 µH
SMD Shielded Tiny Power Inductor WE-TPC, L=0.47 µH; partNo: 74402900047; Manufacturer: Würth Elektronik eiSos GmbH; Inductance: 0.47 µH; ComponentLink1Description: Manufacturer; ComponentLink1URL: http://www.we-online.de; Created by: Christin Zierenner; Created Date: July 2009; ComponentLink2Description: Datasheet; ComponentLink2URL: http://www.we-online.de/katalog/media/pdf/74402900047.pdf
footprint WE-TPC 2813, TH (SMD Inductor, 2-Leads, Body 2,8x2,8mm)
pins: 1, 2

## WE-TPC 2813, TH, 74402900082
designator L?, comment 0.82 µH
SMD Shielded Tiny Power Inductor WE-TPC, L=0.82 µH; partNo: 74402900082; Manufacturer: Würth Elektronik eiSos GmbH; Inductance: 0.82 µH; ComponentLink1Description: Manufacturer; ComponentLink1URL: http://www.we-online.de; Created by: Christin Zierenner; Created Date: July 2009; ComponentLink2Description: Datasheet; ComponentLink2URL: http://www.we-online.de/katalog/media/pdf/74402900082.pdf
footprint WE-TPC 2813, TH (SMD Inductor, 2-Leads, Body 2,8x2,8mm)
pins: 1, 2


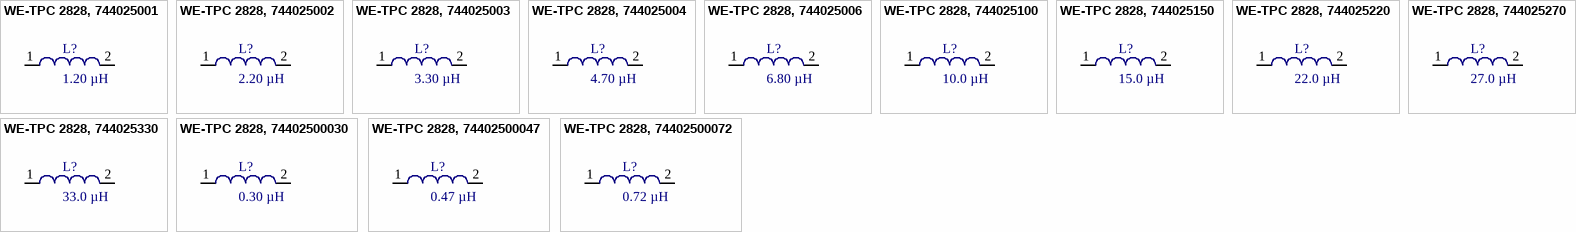
[diagram p4: symbols WE-TPC 2828, 744025001 to WE-TPC 2828, 74402500072]

## WE-TPC 2828, 744025001
designator L?, comment 1.20 µH
SMD Shielded Tiny Power Inductor WE-TPC, L=1.20 µH; partNo: 744025001; Manufacturer: Würth Elektronik eiSos GmbH; Inductance: 1.20 µH; ComponentLink1Description: Manufacturer; ComponentLink1URL: http://www.we-online.de; Created by: Christin Otto; Created Date: January 2013; ComponentLink2Description: Datasheet; ComponentLink2URL: http://www.we-online.de/katalog/media/pdf/744025001.pdf
footprint WE-TPC 2828 (SMD Inductor, 2-Leads, Body 2,8x2,8mm)
pins: 1, 2

## WE-TPC 2828, 744025002
designator L?, comment 2.20 µH
SMD Shielded Tiny Power Inductor WE-TPC, L=2.20 µH; partNo: 744025002; Manufacturer: Würth Elektronik eiSos GmbH; Inductance: 2.20 µH; ComponentLink1Description: Manufacturer; ComponentLink1URL: http://www.we-online.de; Created by: Christin Otto; Created Date: January 2013; ComponentLink2Description: Datasheet; ComponentLink2URL: http://www.we-online.de/katalog/media/pdf/744025002.pdf
footprint WE-TPC 2828 (SMD Inductor, 2-Leads, Body 2,8x2,8mm)
pins: 1, 2

## WE-TPC 2828, 744025003
designator L?, comment 3.30 µH
SMD Shielded Tiny Power Inductor WE-TPC, L=3.30 µH; partNo: 744025003; Manufacturer: Würth Elektronik eiSos GmbH; Inductance: 3.30 µH; ComponentLink1Description: Manufacturer; ComponentLink1URL: http://www.we-online.de; Created by: Christin Otto; Created Date: January 2013; ComponentLink2Description: Datasheet; ComponentLink2URL: http://www.we-online.de/katalog/media/pdf/744025003.pdf
footprint WE-TPC 2828 (SMD Inductor, 2-Leads, Body 2,8x2,8mm)
pins: 1, 2

## WE-TPC 2828, 744025004
designator L?, comment 4.70 µH
SMD Shielded Tiny Power Inductor WE-TPC, L=4.70 µH; partNo: 744025004; Manufacturer: Würth Elektronik eiSos GmbH; Inductance: 4.70 µH; ComponentLink1Description: Manufacturer; ComponentLink1URL: http://www.we-online.de; Created by: Christin Otto; Created Date: January 2013; ComponentLink2Description: Datasheet; ComponentLink2URL: http://www.we-online.de/katalog/media/pdf/744025004.pdf
footprint WE-TPC 2828 (SMD Inductor, 2-Leads, Body 2,8x2,8mm)
pins: 1, 2

## WE-TPC 2828, 744025006
designator L?, comment 6.80 µH
SMD Shielded Tiny Power Inductor WE-TPC, L=6.80 µH; partNo: 744025006; Manufacturer: Würth Elektronik eiSos GmbH; Inductance: 6.80 µH; ComponentLink1Description: Manufacturer; ComponentLink1URL: http://www.we-online.de; Created by: Christin Otto; Created Date: January 2013; ComponentLink2Description: Datasheet; ComponentLink2URL: http://www.we-online.de/katalog/media/pdf/744025006.pdf
footprint WE-TPC 2828 (SMD Inductor, 2-Leads, Body 2,8x2,8mm)
pins: 1, 2

## WE-TPC 2828, 744025100
designator L?, comment 10.0 µH
SMD Shielded Tiny Power Inductor WE-TPC, L=10.0 µH; partNo: 744025100; Manufacturer: Würth Elektronik eiSos GmbH; Inductance: 10.0 µH; ComponentLink1Description: Manufacturer; ComponentLink1URL: http://www.we-online.de; Created by: Christin Otto; Created Date: January 2013; ComponentLink2Description: Datasheet; ComponentLink2URL: http://www.we-online.de/katalog/media/pdf/744025100.pdf
footprint WE-TPC 2828 (SMD Inductor, 2-Leads, Body 2,8x2,8mm)
pins: 1, 2

## WE-TPC 2828, 744025150
designator L?, comment 15.0 µH
SMD Shielded Tiny Power Inductor WE-TPC, L=15.0 µH; partNo: 744025150; Manufacturer: Würth Elektronik eiSos GmbH; Inductance: 15.0 µH; ComponentLink1Description: Manufacturer; ComponentLink1URL: http://www.we-online.de; Created by: Christin Otto; Created Date: January 2013; ComponentLink2Description: Datasheet; ComponentLink2URL: http://www.we-online.de/katalog/media/pdf/744025150.pdf
footprint WE-TPC 2828 (SMD Inductor, 2-Leads, Body 2,8x2,8mm)
pins: 1, 2

## WE-TPC 2828, 744025220
designator L?, comment 22.0 µH
SMD Shielded Tiny Power Inductor WE-TPC, L=22.0 µH; partNo: 744025220; Manufacturer: Würth Elektronik eiSos GmbH; Inductance: 22.0 µH; ComponentLink1Description: Manufacturer; ComponentLink1URL: http://www.we-online.de; Created by: Christin Otto; Created Date: January 2013; ComponentLink2Description: Datasheet; ComponentLink2URL: http://www.we-online.de/katalog/media/pdf/744025220.pdf
footprint WE-TPC 2828 (SMD Inductor, 2-Leads, Body 2,8x2,8mm)
pins: 1, 2

## WE-TPC 2828, 744025270
designator L?, comment 27.0 µH
SMD Shielded Tiny Power Inductor WE-TPC, L=27.0 µH; partNo: 744025270; Manufacturer: Würth Elektronik eiSos GmbH; Inductance: 27.0 µH; ComponentLink1Description: Manufacturer; ComponentLink1URL: http://www.we-online.de; Created by: Christin Otto; Created Date: January 2013; ComponentLink2Description: Datasheet; ComponentLink2URL: http://www.we-online.de/katalog/media/pdf/744025270.pdf
footprint WE-TPC 2828 (SMD Inductor, 2-Leads, Body 2,8x2,8mm)
pins: 1, 2

## WE-TPC 2828, 744025330
designator L?, comment 33.0 µH
SMD Shielded Tiny Power Inductor WE-TPC, L=33.0 µH; partNo: 744025330; Manufacturer: Würth Elektronik eiSos GmbH; Inductance: 33.0 µH; ComponentLink1Description: Manufacturer; ComponentLink1URL: http://www.we-online.de; Created by: Christin Otto; Created Date: January 2013; ComponentLink2Description: Datasheet; ComponentLink2URL: http://www.we-online.de/katalog/media/pdf/744025330.pdf
footprint WE-TPC 2828 (SMD Inductor, 2-Leads, Body 2,8x2,8mm)
pins: 1, 2

## WE-TPC 2828, 74402500030
designator L?, comment 0.30 µH
SMD Shielded Tiny Power Inductor WE-TPC, L=0.30 µH; partNo: 74402500030; Manufacturer: Würth Elektronik eiSos GmbH; Inductance: 0.30 µH; ComponentLink1Description: Manufacturer; ComponentLink1URL: http://www.we-online.de; Created by: Christin Otto; Created Date: January 2013; ComponentLink2Description: Datasheet; ComponentLink2URL: http://www.we-online.de/katalog/media/pdf/74402500030.pdf
footprint WE-TPC 2828 (SMD Inductor, 2-Leads, Body 2,8x2,8mm)
pins: 1, 2

## WE-TPC 2828, 74402500047
designator L?, comment 0.47 µH
SMD Shielded Tiny Power Inductor WE-TPC, L=0.47 µH; partNo: 74402500047; Manufacturer: Würth Elektronik eiSos GmbH; Inductance: 0.47 µH; ComponentLink1Description: Manufacturer; ComponentLink1URL: http://www.we-online.de; Created by: Christin Otto; Created Date: January 2013; ComponentLink2Description: Datasheet; ComponentLink2URL: http://www.we-online.de/katalog/media/pdf/74402500047.pdf
footprint WE-TPC 2828 (SMD Inductor, 2-Leads, Body 2,8x2,8mm)
pins: 1, 2

## WE-TPC 2828, 74402500072
designator L?, comment 0.72 µH
SMD Shielded Tiny Power Inductor WE-TPC, L=0.72 µH; partNo: 74402500072; Manufacturer: Würth Elektronik eiSos GmbH; Inductance: 0.72 µH; ComponentLink1Description: Manufacturer; ComponentLink1URL: http://www.we-online.de; Created by: Christin Otto; Created Date: January 2013; ComponentLink2Description: Datasheet; ComponentLink2URL: http://www.we-online.de/katalog/media/pdf/74402500072.pdf
footprint WE-TPC 2828 (SMD Inductor, 2-Leads, Body 2,8x2,8mm)
pins: 1, 2


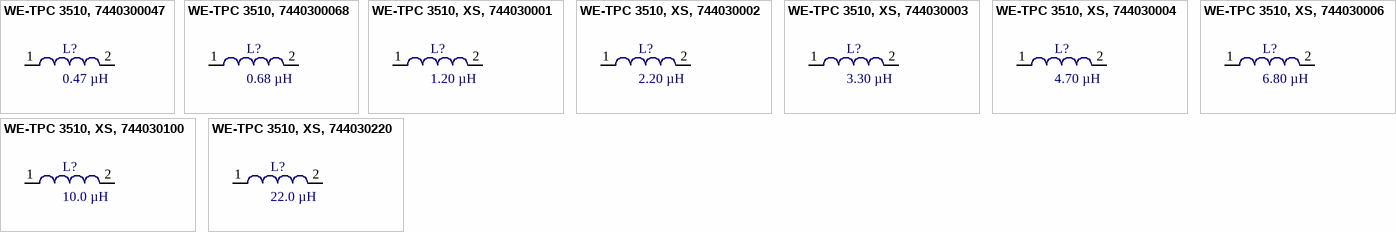
[diagram p5: symbols WE-TPC 3510, 7440300047 to WE-TPC 3510, XS, 744030220]

## WE-TPC 3510, 7440300047
designator L?, comment 0.47 µH
SMD Shielded Tiny Power Inductor WE-TPC, L=0.47 µH; partNo: 7440300047; Manufacturer: Würth Elektronik eiSos GmbH; Inductance: 0.47 µH; ComponentLink1Description: Manufacturer; ComponentLink1URL: http://www.we-online.de; Created by: Christin Otto; Created Date: January 2013; ComponentLink2Description: Datasheet; ComponentLink2URL: http://www.we-online.de/katalog/media/pdf/7440300047.pdf
footprint WE-TPC 3510, XS (SMD Inductor, 2-Leads, Body 3,3x3,5mm)
pins: 1, 2

## WE-TPC 3510, 7440300068
designator L?, comment 0.68 µH
SMD Shielded Tiny Power Inductor WE-TPC, L=0.68 µH; partNo: 7440300068; Manufacturer: Würth Elektronik eiSos GmbH; Inductance: 0.68 µH; ComponentLink1Description: Manufacturer; ComponentLink1URL: http://www.we-online.de; Created by: Christin Otto; Created Date: January 2013; ComponentLink2Description: Datasheet; ComponentLink2URL: http://www.we-online.de/katalog/media/pdf/7440300068.pdf
footprint WE-TPC 3510, XS (SMD Inductor, 2-Leads, Body 3,3x3,5mm)
pins: 1, 2

## WE-TPC 3510, XS, 744030001
designator L?, comment 1.20 µH
SMD Shielded Tiny Power Inductor WE-TPC, L=1.20 µH; partNo: 744030001; Manufacturer: Würth Elektronik eiSos GmbH; Inductance: 1.20 µH; ComponentLink1Description: Manufacturer; ComponentLink1URL: http://www.we-online.de; Created by: Christin Zierenner; Created Date: July 2009; ComponentLink2Description: Datasheet; ComponentLink2URL: http://www.we-online.de/katalog/media/pdf/744030001.pdf
footprint WE-TPC 3510, XS (SMD Inductor, 2-Leads, Body 3,3x3,5mm)
pins: 1, 2

## WE-TPC 3510, XS, 744030002
designator L?, comment 2.20 µH
SMD Shielded Tiny Power Inductor WE-TPC, L=2.20 µH; partNo: 744030002; Manufacturer: Würth Elektronik eiSos GmbH; Inductance: 2.20 µH; ComponentLink1Description: Manufacturer; ComponentLink1URL: http://www.we-online.de; Created by: Christin Zierenner; Created Date: July 2009; ComponentLink2Description: Datasheet; ComponentLink2URL: http://www.we-online.de/katalog/media/pdf/744030002.pdf
footprint WE-TPC 3510, XS (SMD Inductor, 2-Leads, Body 3,3x3,5mm)
pins: 1, 2

## WE-TPC 3510, XS, 744030003
designator L?, comment 3.30 µH
SMD Shielded Tiny Power Inductor WE-TPC, L=3.30 µH; partNo: 744030003; Manufacturer: Würth Elektronik eiSos GmbH; Inductance: 3.30 µH; ComponentLink1Description: Manufacturer; ComponentLink1URL: http://www.we-online.de; Created by: Christin Zierenner; Created Date: July 2009; ComponentLink2Description: Datasheet; ComponentLink2URL: http://www.we-online.de/katalog/media/pdf/744030003.pdf
footprint WE-TPC 3510, XS (SMD Inductor, 2-Leads, Body 3,3x3,5mm)
pins: 1, 2

## WE-TPC 3510, XS, 744030004
designator L?, comment 4.70 µH
SMD Shielded Tiny Power Inductor WE-TPC, L=4.70 µH; partNo: 744030004; Manufacturer: Würth Elektronik eiSos GmbH; Inductance: 4.70 µH; ComponentLink1Description: Manufacturer; ComponentLink1URL: http://www.we-online.de; Created by: Christin Zierenner; Created Date: July 2009; ComponentLink2Description: Datasheet; ComponentLink2URL: http://www.we-online.de/katalog/media/pdf/744030004.pdf
footprint WE-TPC 3510, XS (SMD Inductor, 2-Leads, Body 3,3x3,5mm)
pins: 1, 2

## WE-TPC 3510, XS, 744030006
designator L?, comment 6.80 µH
SMD Shielded Tiny Power Inductor WE-TPC, L=6.80 µH; partNo: 744030006; Manufacturer: Würth Elektronik eiSos GmbH; Inductance: 6.80 µH; ComponentLink1Description: Manufacturer; ComponentLink1URL: http://www.we-online.de; Created by: Christin Zierenner; Created Date: July 2009; ComponentLink2Description: Datasheet; ComponentLink2URL: http://www.we-online.de/katalog/media/pdf/744030006.pdf
footprint WE-TPC 3510, XS (SMD Inductor, 2-Leads, Body 3,3x3,5mm)
pins: 1, 2

## WE-TPC 3510, XS, 744030100
designator L?, comment 10.0 µH
SMD Shielded Tiny Power Inductor WE-TPC, L=10.0 µH; partNo: 744030100; Manufacturer: Würth Elektronik eiSos GmbH; Inductance: 10.0 µH; ComponentLink1Description: Manufacturer; ComponentLink1URL: http://www.we-online.de; Created by: Christin Zierenner; Created Date: July 2009; ComponentLink2Description: Datasheet; ComponentLink2URL: http://www.we-online.de/katalog/media/pdf/744030100.pdf
footprint WE-TPC 3510, XS (SMD Inductor, 2-Leads, Body 3,3x3,5mm)
pins: 1, 2

## WE-TPC 3510, XS, 744030220
designator L?, comment 22.0 µH
SMD Shielded Tiny Power Inductor WE-TPC, L=22.0 µH; partNo: 744030220; Manufacturer: Würth Elektronik eiSos GmbH; Inductance: 22.0 µH; ComponentLink1Description: Manufacturer; ComponentLink1URL: http://www.we-online.de; Created by: Christin Zierenner; Created Date: July 2009; ComponentLink2Description: Datasheet; ComponentLink2URL: http://www.we-online.de/katalog/media/pdf/744030220.pdf
footprint WE-TPC 3510, XS (SMD Inductor, 2-Leads, Body 3,3x3,5mm)
pins: 1, 2


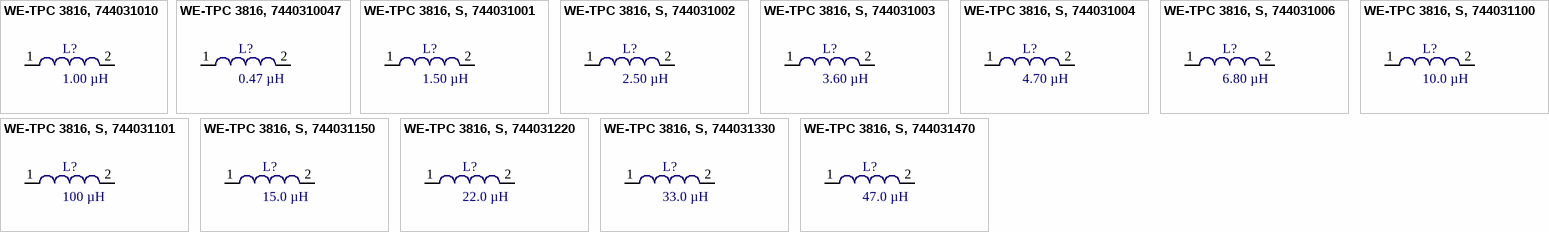
[diagram p6: symbols WE-TPC 3816, 744031010 to WE-TPC 3816, S, 744031470]

## WE-TPC 3816, 744031010
designator L?, comment 1.00 µH
SMD Shielded Tiny Power Inductor WE-TPC, L=1.00 µH; partNo: 744031010; Manufacturer: Würth Elektronik eiSos GmbH; Inductance: 1.00 µH; ComponentLink1Description: Manufacturer; ComponentLink1URL: http://www.we-online.de; Created by: Christin Otto; Created Date: January 2013; ComponentLink2Description: Datasheet; ComponentLink2URL: http://www.we-online.de/katalog/media/pdf/744031010.pdf
footprint WE-TPC 3816, S (SMD Inductor, 2-Leads, Body 3,8x3,8mm)
pins: 1, 2

## WE-TPC 3816, 7440310047
designator L?, comment 0.47 µH
SMD Shielded Tiny Power Inductor WE-TPC, L=0.47 µH; partNo: 7440310047; Manufacturer: Würth Elektronik eiSos GmbH; Inductance: 0.47 µH; ComponentLink1Description: Manufacturer; ComponentLink1URL: http://www.we-online.de; Created by: Christin Otto; Created Date: January 2013; ComponentLink2Description: Datasheet; ComponentLink2URL: http://www.we-online.de/katalog/media/pdf/7440310047.pdf
footprint WE-TPC 3816, S (SMD Inductor, 2-Leads, Body 3,8x3,8mm)
pins: 1, 2

## WE-TPC 3816, S, 744031001
designator L?, comment 1.50 µH
SMD Shielded Tiny Power Inductor WE-TPC, L=1.50 µH; partNo: 744031001; Manufacturer: Würth Elektronik eiSos GmbH; Inductance: 1.50 µH; ComponentLink1Description: Manufacturer; ComponentLink1URL: http://www.we-online.de; Created by: Christin Zierenner; Created Date: July 2009; ComponentLink2Description: Datasheet; ComponentLink2URL: http://www.we-online.de/katalog/media/pdf/744031001.pdf
footprint WE-TPC 3816, S (SMD Inductor, 2-Leads, Body 3,8x3,8mm)
pins: 1, 2

## WE-TPC 3816, S, 744031002
designator L?, comment 2.50 µH
SMD Shielded Tiny Power Inductor WE-TPC, L=2.50 µH; partNo: 744031002; Manufacturer: Würth Elektronik eiSos GmbH; Inductance: 2.50 µH; ComponentLink1Description: Manufacturer; ComponentLink1URL: http://www.we-online.de; Created by: Christin Zierenner; Created Date: July 2009; ComponentLink2Description: Datasheet; ComponentLink2URL: http://www.we-online.de/katalog/media/pdf/744031002.pdf
footprint WE-TPC 3816, S (SMD Inductor, 2-Leads, Body 3,8x3,8mm)
pins: 1, 2

## WE-TPC 3816, S, 744031003
designator L?, comment 3.60 µH
SMD Shielded Tiny Power Inductor WE-TPC, L=3.60 µH; partNo: 744031003; Manufacturer: Würth Elektronik eiSos GmbH; Inductance: 3.60 µH; ComponentLink1Description: Manufacturer; ComponentLink1URL: http://www.we-online.de; Created by: Christin Zierenner; Created Date: July 2009; ComponentLink2Description: Datasheet; ComponentLink2URL: http://www.we-online.de/katalog/media/pdf/744031003.pdf
footprint WE-TPC 3816, S (SMD Inductor, 2-Leads, Body 3,8x3,8mm)
pins: 1, 2

## WE-TPC 3816, S, 744031004
designator L?, comment 4.70 µH
SMD Shielded Tiny Power Inductor WE-TPC, L=4.70 µH; partNo: 744031004; Manufacturer: Würth Elektronik eiSos GmbH; Inductance: 4.70 µH; ComponentLink1Description: Manufacturer; ComponentLink1URL: http://www.we-online.de; Created by: Christin Zierenner; Created Date: July 2009; ComponentLink2Description: Datasheet; ComponentLink2URL: http://www.we-online.de/katalog/media/pdf/744031004.pdf
footprint WE-TPC 3816, S (SMD Inductor, 2-Leads, Body 3,8x3,8mm)
pins: 1, 2

## WE-TPC 3816, S, 744031006
designator L?, comment 6.80 µH
SMD Shielded Tiny Power Inductor WE-TPC, L=6.80 µH; partNo: 744031006; Manufacturer: Würth Elektronik eiSos GmbH; Inductance: 6.80 µH; ComponentLink1Description: Manufacturer; ComponentLink1URL: http://www.we-online.de; Created by: Christin Zierenner; Created Date: July 2009; ComponentLink2Description: Datasheet; ComponentLink2URL: http://www.we-online.de/katalog/media/pdf/744031006.pdf
footprint WE-TPC 3816, S (SMD Inductor, 2-Leads, Body 3,8x3,8mm)
pins: 1, 2

## WE-TPC 3816, S, 744031100
designator L?, comment 10.0 µH
SMD Shielded Tiny Power Inductor WE-TPC, L=10.0 µH; partNo: 744031100; Manufacturer: Würth Elektronik eiSos GmbH; Inductance: 10.0 µH; ComponentLink1Description: Manufacturer; ComponentLink1URL: http://www.we-online.de; Created by: Christin Zierenner; Created Date: July 2009; ComponentLink2Description: Datasheet; ComponentLink2URL: http://www.we-online.de/katalog/media/pdf/744031100.pdf
footprint WE-TPC 3816, S (SMD Inductor, 2-Leads, Body 3,8x3,8mm)
pins: 1, 2